# Altium footprint library RES1206.PcbLib: 7 footprints
Each footprint in its own frame and in the unit in brackets; x right, y up, seen from the top. Pads: shape width x height; smd on the part's side, far side on the other; paste and mask are expansions set on the pad; w line width, h text height; cw(c..) or ccw(c..) is an arc to the next point about the centre after c.
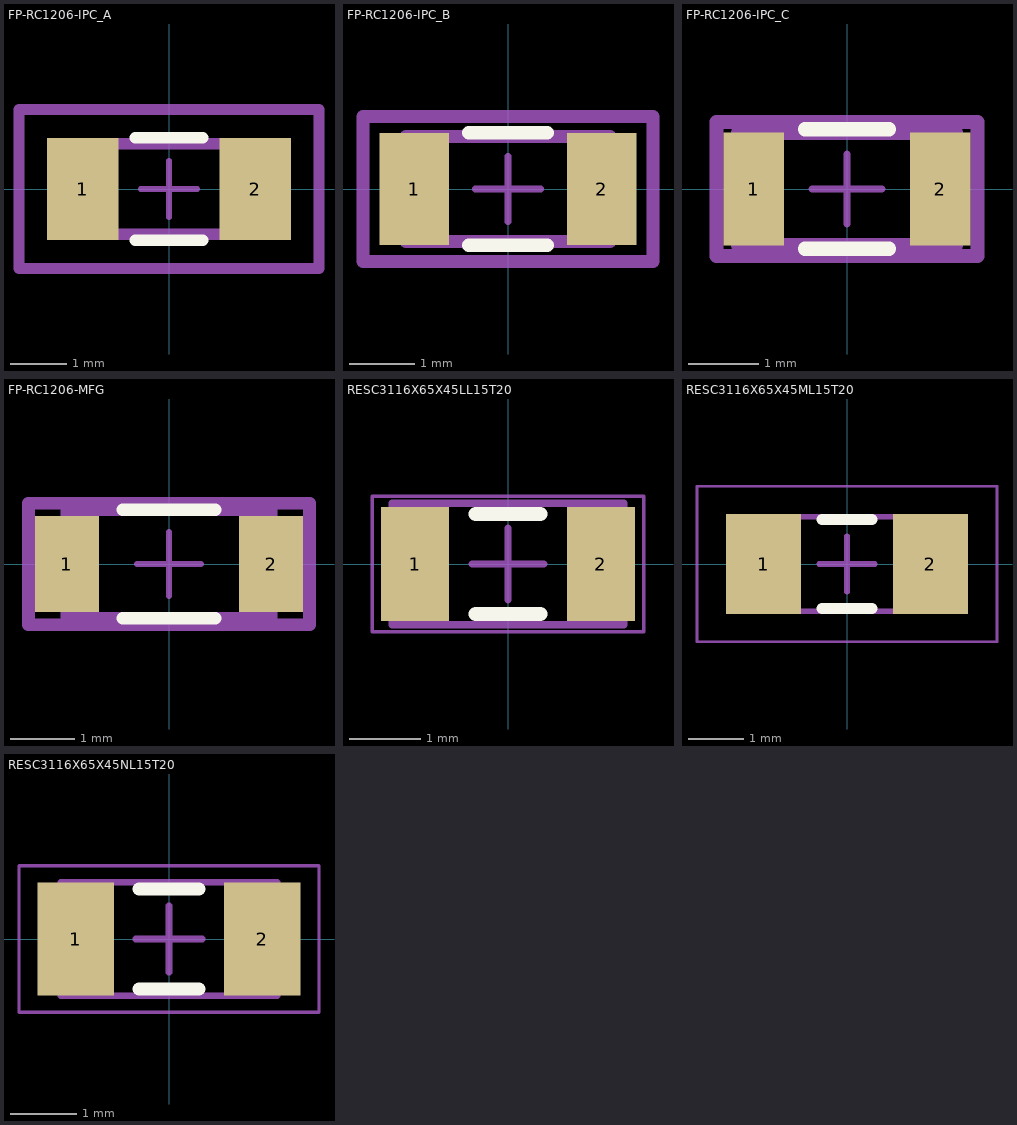
[diagram p0: the footprints below, top view; thin cyan lines are the x and y axes]

## FP-RC1206-IPC_A [mm]
pads (2):
  rect 1.258x1.812 smd: 1(-1.527,0) 2(1.527,0)
Top Overlay:
  lines w0.2: -0.598,-0.906 0.598,-0.906 ; -0.598,0.906 0.598,0.906
Top 3D Body:
  lines w0.2: -1.55,-0.8 1.55,-0.8 1.55,0.8 -1.55,0.8 -1.55,-0.8
Top Assembly:
  lines w0.2: -2.656,-1.406 2.656,-1.406 2.656,1.406 -2.656,1.406 -2.656,-1.406
  text ".Designator" at 0,0.188 h1
Top Courtyard:
  lines w0.2: -2.656,-1.406 2.656,-1.406 2.656,1.406 -2.656,1.406 -2.656,-1.406
Top Component Center:
  lines w0.1: -0.5,0 0.5,0 ; 0,-0.5 0,0.5
3D body "Res_YAGEO_RC1206JR-070RL_eec.STEP": height 0.25, standoff 0, extent -2.656,-1.406 2.656,1.406

## FP-RC1206-IPC_B [mm]
pads (2):
  rect 1.058x1.712 smd: 1(-1.427,0) 2(1.427,0)
Top Overlay:
  lines w0.2: -0.598,-0.856 0.598,-0.856 ; -0.598,0.856 0.598,0.856
Top 3D Body:
  lines w0.2: -1.55,-0.8 1.55,-0.8 1.55,0.8 -1.55,0.8 -1.55,-0.8
Top Assembly:
  lines w0.2: -2.206,-1.106 2.206,-1.106 2.206,1.106 -2.206,1.106 -2.206,-1.106
  text ".Designator" at 0,0.188 h1
Top Courtyard:
  lines w0.2: -2.206,-1.106 2.206,-1.106 2.206,1.106 -2.206,1.106 -2.206,-1.106
Top Component Center:
  lines w0.1: -0.5,0 0.5,0 ; 0,-0.5 0,0.5
3D body "Res_YAGEO_RC1206JR-070RL_eec.STEP": height 0.25, standoff 0, extent -2.206,-1.106 2.206,1.106

## FP-RC1206-IPC_C [mm]
pads (2):
  rect 0.858x1.612 smd: 1(-1.327,0) 2(1.327,0)
Top Overlay:
  lines w0.2: -0.598,-0.85 0.598,-0.85 ; -0.598,0.85 0.598,0.85
Top 3D Body:
  lines w0.2: -1.55,-0.8 -1.55,0.8 1.55,0.8 1.55,-0.8 -1.55,-0.8
Top Assembly:
  lines w0.2: -1.856,-0.95 -1.856,0.95 1.856,0.95 1.856,-0.95 -1.856,-0.95
  text ".Designator" at 0,0.188 h1
Top Courtyard:
  lines w0.2: -1.856,-0.95 -1.856,0.95 1.856,0.95 1.856,-0.95 -1.856,-0.95
Top Component Center:
  lines w0.1: -0.5,0 0.5,0 ; 0,-0.5 0,0.5
3D body "Res_YAGEO_RC1206JR-070RL_eec.STEP": height 0.25, standoff 0, extent -1.856,-0.95 1.856,0.95

## FP-RC1206-MFG [mm]
pads (2):
  rect 1x1.5 smd: 1(-1.6,0) 2(1.6,0)
Top Overlay:
  lines w0.2: -0.725,-0.85 0.725,-0.85 ; -0.725,0.85 0.725,0.85
Top 3D Body:
  lines w0.2: -1.6,-0.85 -1.6,0.85 1.6,0.85 1.6,-0.85 -1.6,-0.85
Top Assembly:
  lines w0.2: -2.2,-0.95 -2.2,0.95 2.2,0.95 2.2,-0.95 -2.2,-0.95
  text ".Designator" at 0,0.188 h1
Top Courtyard:
  lines w0.2: -2.2,-0.95 -2.2,0.95 2.2,0.95 2.2,-0.95 -2.2,-0.95
Top Component Center:
  lines w0.1: -0.5,0 0.5,0 ; 0,-0.5 0,0.5
3D body "Res_YAGEO_RC1206JR-070RL_eec.STEP": height 0.25, standoff 0, extent -2.2,-0.95 2.2,0.95

## RESC3116X65X45LL15T20 [mm] "Chip Resistor, 2-Leads, Body 3.25x1.7mm, IPC High Density"
height 0.65
pads (2):
  rect 0.95x1.6 smd: 1(-1.3,0) 2(1.3,0)
Top Overlay:
  lines w0.2: -0.45,-0.7 0.45,-0.7 ; -0.45,0.7 0.45,0.7
Mechanical 13:
  lines w0.1: -1.625,-0.85 1.625,-0.85 1.625,0.85 -1.625,0.85 -1.625,-0.85
Mechanical 15:
  lines w0.05: -1.9,-0.95 1.9,-0.95 1.9,0.95 -1.9,0.95 -1.9,-0.95
  lines w0.1: -0.5,0 0.5,0 ; 0,-0.5 0,0.5
3D body "RESC3116X06L.step": height 0.65, standoff 0, extent -1.625,-0.85 1.625,0.85

## RESC3116X65X45ML15T20 [mm] "Chip Resistor, 2-Leads, Body 3.25x1.7mm, IPC Low Density"
height 0.65
pads (2):
  rect 1.35x1.8 smd: 1(-1.5,0) 2(1.5,0)
Top Overlay:
  lines w0.2: -0.45,-0.8 0.45,-0.8 ; -0.45,0.8 0.45,0.8
Mechanical 13:
  lines w0.1: -1.625,-0.85 -1.625,0.85 1.625,0.85 1.625,-0.85 -1.625,-0.85
Mechanical 15:
  lines w0.05: -2.7,-1.4 -2.7,1.4 2.7,1.4 2.7,-1.4 -2.7,-1.4
  lines w0.1: -0.5,0 0.5,0 ; 0,-0.5 0,0.5
3D body "RESC3116X06M.step": height 0.65, standoff 0, extent -1.625,-0.85 1.625,0.85

## RESC3116X65X45NL15T20 [mm] "Chip Resistor, 2-Leads, Body 3.25x1.7mm, IPC Medium Density"
height 0.65
pads (2):
  rect 1.15x1.7 smd: 1(-1.4,0) 2(1.4,0)
Top Overlay:
  lines w0.2: -0.45,-0.75 0.45,-0.75 ; -0.45,0.75 0.45,0.75
Mechanical 13:
  lines w0.1: -1.625,-0.85 1.625,-0.85 1.625,0.85 -1.625,0.85 -1.625,-0.85
Mechanical 15:
  lines w0.05: -2.25,-1.1 2.25,-1.1 2.25,1.1 -2.25,1.1 -2.25,-1.1
  lines w0.1: -0.5,0 0.5,0 ; 0,-0.5 0,0.5
3D body "RESC3116X06N.step": height 0.65, standoff 0, extent -1.625,-0.85 1.625,0.85